# Altium integrated library robot2.IntLib: 33 symbols
Pins are listed as number, name and electrical type; pins without a type are passive.

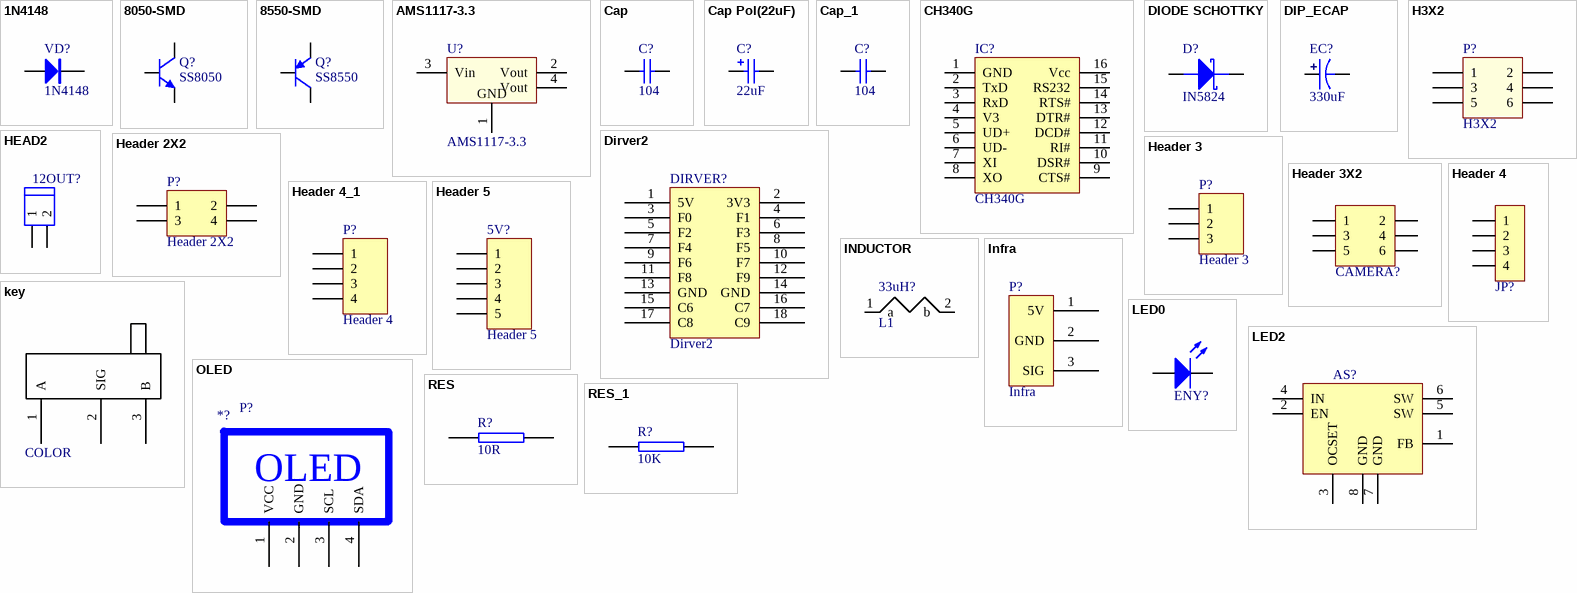
[diagram p0: symbols 1N4148 to RES_1]

## 1N4148
designator VD?
高速开关二极管; 版权归属: 源创客; BOM名称: 高速开关二极管; 学习资源: www.ooocke.com
footprint DO-35 (1.8*6.8mm(直径，脚距）)
footprint MINI_MELF (LL34)
footprint SOD-323 (1.8x1.3X0.9mm（长宽高，不包括引脚）)
footprint DO-35V (1.8*2.5mm(直径，脚距）)
pins: 1 A, 2 K

## 8050-SMD
designator Q?, comment SS8050
高频放大-NPN型; 版权归属: 源创客; 属性: 40V 1.5A 1W 100MHZ; BOM名称: 高频放大-NPN型; 学习资源: www.ooocke.com
footprint SOT23-3N (3x1.3x1mm(长宽高))
footprint SOT23-3L (3x1.3x1mm(长宽高))
footprint SOT23-3M
pins: 1 B, 2 E, 3 C

## 8550-SMD
designator Q?, comment SS8550
高频放大-PNP型; 版权归属: 源创客; 属性: 40V 1.5A 1W 100MHZ; BOM名称: 高频放大-PNP型; 学习资源: www.ooocke.com
footprint SOT23-3N (3x1.3x1mm(长宽高))
footprint SOT23-3L (3x1.3x1mm(长宽高))
footprint SOT23-3M
pins: 1 B, 2 E, 3 C

## AMS1117-3.3
designator U?
footprint SOT-223(AMS1117-3.3)
pins: 1 GND, 2 Vout, 3 Vin, 4 Vout

## Cap
designator C?  (value not drawn)
footprint CAP[0805]
pins: 1, 2
text: 104

## Cap Pol(22uF)
designator C?  (value not drawn)
footprint CAP[1210]
pins: 1, 2
text: 22uF

## Cap_1
designator C?, comment Cap  (value not drawn)
footprint CAP[0805]
pins: 1, 2
text: 104

## CH340G
designator IC?
串口转USB; 版权归属: 源创客; BOM名称: 串口转USB; 学习资源: www.ooocke.com
footprint SOP16_L (10.3*6.2*1.8mm（长宽高）)
footprint SOP16_N (10.3*6.2*1.8mm（长宽高）)
footprint SOP16_M
footprint DIP16-300 (19.3*7.6*3.8(长宽高）)
pins: 1 GND, 2 TxD, 3 RxD, 4 V3, 5 UD+, 6 UD-, 7 XI, 8 XO, 9 CTS#, 10 DSR#, 11 RI#, 12 DCD#, 13 DTR#, 14 RTS#, 15 RS232, 16 Vcc

## DIODE SCHOTTKY
designator D?, comment IN5824
肖特基二极管
footprint DO-15
footprint DO-15L
footprint DO-15LV
footprint DO-15V
footprint DO-27
footprint DO-27V
footprint DO-35
footprint DO-35V
footprint DO-41
footprint DO-41G
footprint DO-41GV
footprint DO-41V
footprint DO-201AD
footprint DO-201ADV
footprint LL34 (玻封二极管)
footprint SMA/DO-214AC (塑封二极管)
footprint SMB/DO-214AA (塑封二极管)
footprint SMC/DO-214AB (塑封二极管)
footprint SOD-123 (塑封二极管)
footprint SOD-323 (塑封二极管)
footprint SOD-523 (塑封二极管)
pins: A, K

## DIP_ECAP
designator EC?, comment 330uF
直插电解电容
footprint DIP-EC1.5X4X8
footprint DIP-EC1.5X4X8-A
footprint DIP-EC2.0X5X11
footprint DIP-EC2.0X5X11-A
footprint DIP-EC5.0X10X12.5
footprint DIP-EC2.5X5X11-A
footprint DIP-EC2.5X6.3X11.2-A
footprint DIP-EC2.5X6.3X11.2
footprint DIP-EC3.5X8X11.5
footprint DIP-EC3.5X8X11.5-A
footprint DIP-EC5.0X10X12.5
footprint DIP-EC5.0X10X12.5-A
footprint DIP-EC5.0X10X16
footprint DIP-EC5.0X10X16-A
footprint DIP-EC5.0X10X20
footprint DIP-EC5.0X10X20-A
footprint DIP-EC5.0X12.5X20
footprint DIP-EC5.0X12.5X20-A
footprint DIP-EC5.0X12.5X25
footprint DIP-EC5.0X12.5X25-A
footprint DIP-EC5X11
footprint DIP-EC6.3X11
footprint DIP-EC7.5X16X25
footprint DIP-EC7.5X16X25-A
footprint DIP-EC7.5X16X31.5
footprint DIP-EC7.5X16X31.5-A
footprint DIP-EC7.5X18X35.5
footprint DIP-EC7.5X18X35.5-A
footprint DIP-EC8X12
footprint DIP-EC10X17
footprint DIP-EC10X22X31.5
footprint DIP-EC5.0X10X12.5
pins: 1, 2

## Dirver2
designator DIRVER?
footprint DIRVER2
pins: 1 5V, 2 3V3, 3 F0, 4 F1, 5 F2, 6 F3, 7 F4, 8 F5, 9 F6, 10 F7, 11 F8, 12 F9, 13 GND, 14 GND, 15 C6, 16 C7, 17 C8, 18 C9

## H3X2
designator P?
footprint H2.54-2X3
pins: 1, 2, 3, 4, 5, 6

## HEAD2
designator 12OUT?  (value not drawn)
footprint HEAD2H (HEAD5.08)
footprint HEAD2L (HEAD5.08)
footprint HEAD2L-0.8
footprint HEAD2W (2EDG-2,pin:5.08mm)
pins: 1, 2

## Header 2X2
designator P?
Header, 2-Pin, Dual row; LatestRevisionDate: 17-Jul-2002; LatestRevisionNote: Re-released for DXP Platform.; Publisher: Altium Limited
footprint HDR2X2 (Connector; Header; 2x2 Position)
signal-integrity model Connector
pins: 1, 2, 3, 4

## Header 3
designator P?
Header, 3-Pin; LatestRevisionDate: 17-Jul-2002; LatestRevisionNote: Re-released for DXP Platform.; Publisher: Altium Limited
footprint HDR1X3 (Connector; Header; 3 Position)
signal-integrity model Connector
pins: 1, 2, 3

## Header 3X2
designator CAMERA?, comment Header3X2  (value not drawn)
3*2P接插件; 版权归属: 源创客; BOM名称: 3*2P接插件; 学习资源: www.ooocke.com
footprint HDR-3X2 (双排弯脚排针，3x2脚)
footprint IDC2.54-6P (6P简易牛角座)
footprint HDR-3X2_H (双排弯脚排针，3x2脚)
footprint PHB2.0-2x3 (长：8mm，宽：7.3mm，高：7.8mm)
footprint PHD2.0-2x3P (6脚，长：8mm，宽：5mm，高：6.5mm)
footprint HDR2.54 2x3-M-SMD (脚距：2.54mm，贴片双排母)
pins: 1, 2, 3, 4, 5, 6

## Header 4
designator JP?, comment HDR-1X4  (value not drawn)
4P接插件; 版权归属: 源创客; BOM名称: 4P接插件; 学习资源: www.ooocke.com
footprint HDR-1X4 (排针，4脚)
footprint HDR-1X4_M
footprint XH2.54-4P (接插件，4P)
footprint KF2510-4P (接插件/2A)
footprint VH3.96-4P_H (接插件，25V/5A)
footprint PH2.0 D-L-4P (接插件/1A)
footprint HDR-1X4_H (弯脚排针，4脚)
footprint HDR-1X4_Y (圆孔排母，4脚)
footprint XH2.54-4P_H (接插件，4P)
footprint PH2.0 D-W-4P (接插件/1A)
footprint KF301-4P (可拼接端子/6A)
footprint KF2EDGK-4P (直列插拔式端子)
footprint KF2EDGK-4P_H (弯角插拔式端子)
footprint KF7620-4P (30.5*12*12mm(长宽高))
footprint KF350-4P (可拼接端子/10A)
footprint KF128-3.81-4P (螺钉式接线端子，脚距3.81mm)
footprint KF128-5.08-4P (螺钉式接线端子，脚距5.08mm)
footprint VH3.96-4P (接插件，25V/5A)
footprint PH2.0 S-W-4P (长：12mm，宽：7.6mm，高：5.5mm)
pins: 1, 2, 3, 4

## Header 4_1
designator P?, comment Header 4
Header, 4-Pin; LatestRevisionDate: 17-Jul-2002; LatestRevisionNote: Re-released for DXP Platform.; Publisher: Altium Limited
footprint HDR1X4 (Connector; Header; 4 Position)
signal-integrity model Connector
pins: 1, 2, 3, 4

## Header 5
designator 5V?
Header, 5-Pin; LatestRevisionDate: 17-Jul-2002; LatestRevisionNote: Re-released for DXP Platform.; Publisher: Altium Limited
footprint HDR1X5 (Connector; Header; 5 Position)
signal-integrity model Connector
pins: 1, 2, 3, 4, 5

## INDUCTOR
designator 33uH?, comment L1
footprint INDUCTOR
pins: 1 a, 2 b

## Infra
designator P?
footprint Infra
pins: 1 5V, 2 GND, 3 SIG

## key
designator COLOR?, comment COLOR
footprint KEY
pins: 1 A, 2 SIG, 3 B

## LED0
designator ENY?  (value not drawn)
footprint LED[0805]
pins: 1 A, 2 K

## LED2
designator AS?, comment U1  (value not drawn)
footprint AS1015
pins: 1 FB, 2 EN, 3 OCSET, 4 IN, 5 SW, 6 SW, 7 GND, 8 GND

## OLED
designator *?, comment P?
footprint OLED
pins: 1 VCC, 2 GND, 3 SCL, 4 SDA

## RES
designator R?, comment 10R
footprint R0805
pins: 1, 2

## RES_1
designator R?, comment 10K
footprint R0805
pins: 1, 2

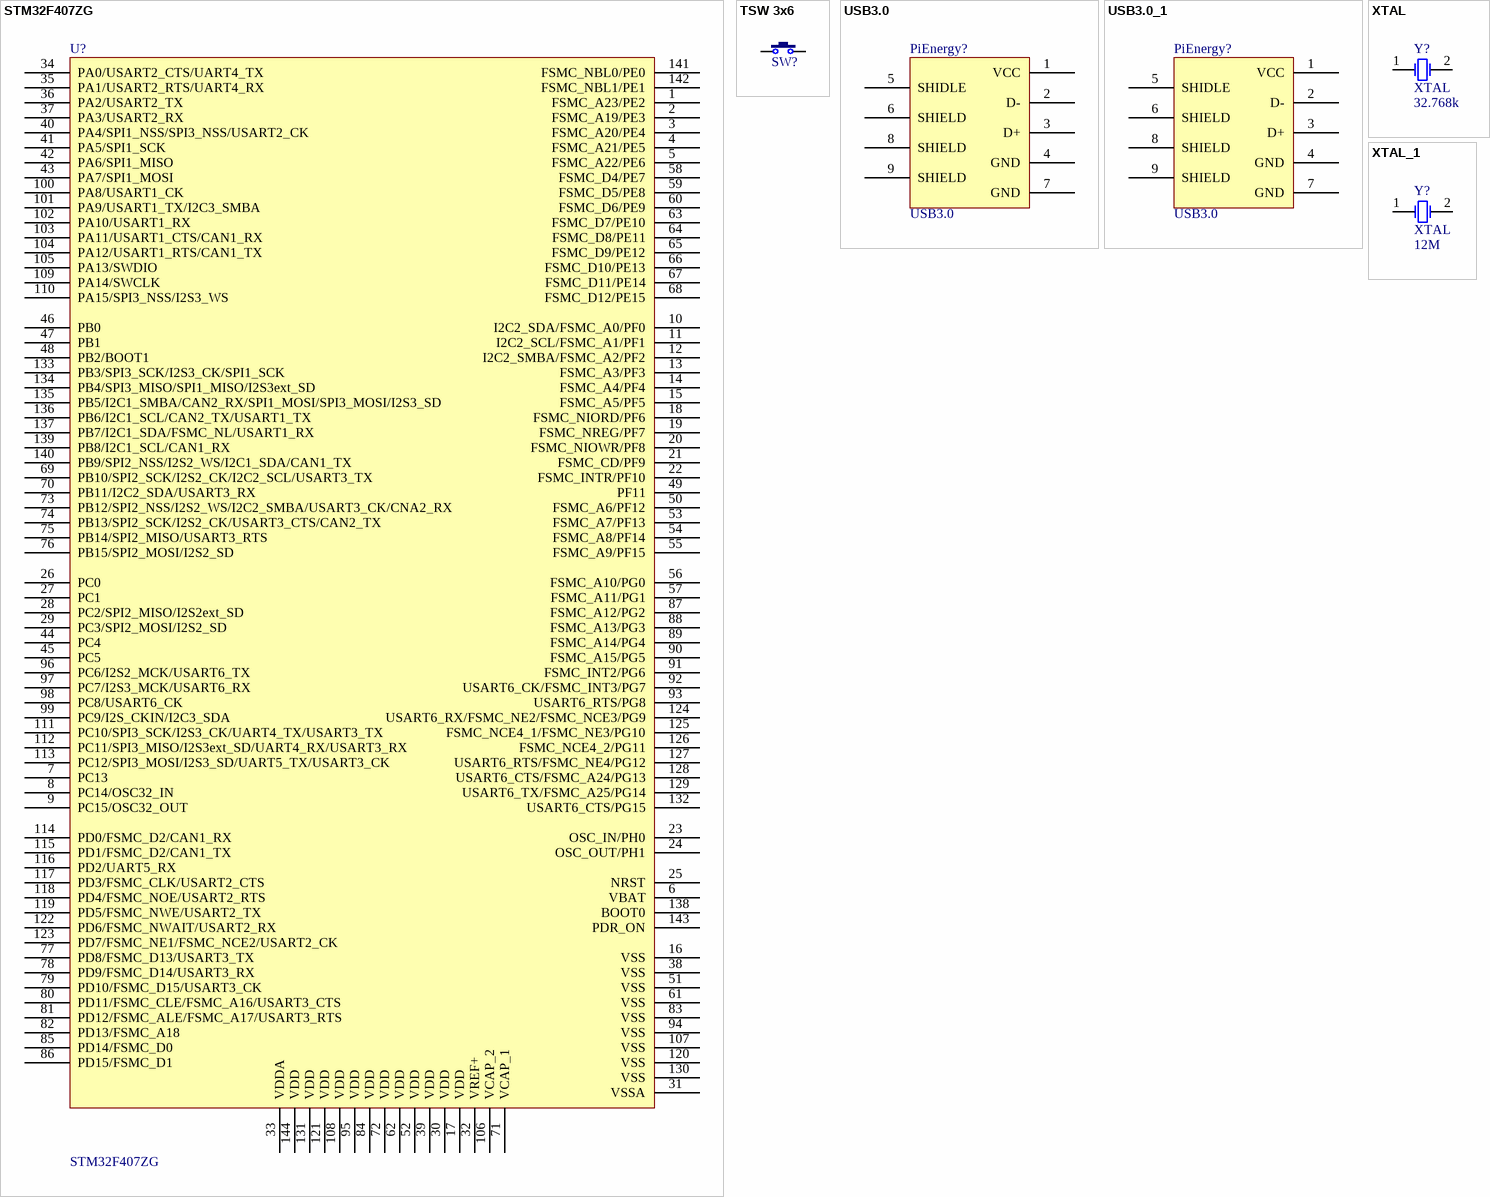
[diagram p1: symbols STM32F407ZG to XTAL_1]

## STM32F407ZG
designator U?
Flaah:1024/RAM:192/IO:114; BOM名称: 32位ST单片机; 版权归属: 源创客; 学习资源: www.ooocke.com
footprint LQFP144 20X20_L (144脚，体宽20x20mm，脚距0.5mm)
footprint LQFP144 20X20_M
footprint LQFP144 20X20_N (144脚，体宽20x20mm，脚距0.5mm)
pins: 1 FSMC_A23/PE2, 2 FSMC_A19/PE3, 3 FSMC_A20/PE4, 4 FSMC_A21/PE5, 5 FSMC_A22/PE6, 6 VBAT, 7 PC13, 8 PC14/OSC32_IN, 9 PC15/OSC32_OUT, 10 I2C2_SDA/FSMC_A0/PF0, 11 I2C2_SCL/FSMC_A1/PF1, 12 I2C2_SMBA/FSMC_A2/PF2, 13 FSMC_A3/PF3, 14 FSMC_A4/PF4, 15 FSMC_A5/PF5, 16 VSS, 17 VDD, 18 FSMC_NIORD/PF6, 19 FSMC_NREG/PF7, 20 FSMC_NIOWR/PF8, 21 FSMC_CD/PF9, 22 FSMC_INTR/PF10, 23 OSC_IN/PH0, 24 OSC_OUT/PH1, 25 NRST, 26 PC0, 27 PC1, 28 PC2/SPI2_MISO/I2S2ext_SD, 29 PC3/SPI2_MOSI/I2S2_SD, 30 VDD, 31 VSSA, 32 VREF+, 33 VDDA, 34 PA0/USART2_CTS/UART4_TX, 35 PA1/USART2_RTS/UART4_RX, 36 PA2/USART2_TX, 37 PA3/USART2_RX, 38 VSS, 39 VDD, 40 PA4/SPI1_NSS/SPI3_NSS/USART2_CK, 41 PA5/SPI1_SCK, 42 PA6/SPI1_MISO, 43 PA7/SPI1_MOSI, 44 PC4, 45 PC5, 46 PB0, 47 PB1, 48 PB2/BOOT1, 49 PF11, 50 FSMC_A6/PF12, 51 VSS, 52 VDD, 53 FSMC_A7/PF13, 54 FSMC_A8/PF14, 55 FSMC_A9/PF15, 56 FSMC_A10/PG0, 57 FSMC_A11/PG1, 58 FSMC_D4/PE7, 59 FSMC_D5/PE8, 60 FSMC_D6/PE9, 61 VSS, 62 VDD, 63 FSMC_D7/PE10, 64 FSMC_D8/PE11, 65 FSMC_D9/PE12, 66 FSMC_D10/PE13, 67 FSMC_D11/PE14, 68 FSMC_D12/PE15, 69 PB10/SPI2_SCK/I2S2_CK/I2C2_SCL/USART3_TX, 70 PB11/I2C2_SDA/USART3_RX, 71 VCAP_1, 72 VDD, 73 PB12/SPI2_NSS/I2S2_WS/I2C2_SMBA/USART3_CK/CNA2_RX, 74 PB13/SPI2_SCK/I2S2_CK/USART3_CTS/CAN2_TX, 75 PB14/SPI2_MISO/USART3_RTS, 76 PB15/SPI2_MOSI/I2S2_SD, 77 PD8/FSMC_D13/USART3_TX, 78 PD9/FSMC_D14/USART3_RX, 79 PD10/FSMC_D15/USART3_CK, 80 PD11/FSMC_CLE/FSMC_A16/USART3_CTS, 81 PD12/FSMC_ALE/FSMC_A17/USART3_RTS, 82 PD13/FSMC_A18, 83 VSS, 84 VDD, 85 PD14/FSMC_D0, 86 PD15/FSMC_D1, 87 FSMC_A12/PG2, 88 FSMC_A13/PG3, 89 FSMC_A14/PG4, 90 FSMC_A15/PG5, 91 FSMC_INT2/PG6, 92 USART6_CK/FSMC_INT3/PG7, 93 USART6_RTS/PG8, 94 VSS, 95 VDD, 96 PC6/I2S2_MCK/USART6_TX, 97 PC7/I2S3_MCK/USART6_RX, 98 PC8/USART6_CK, 99 PC9/I2S_CKIN/I2C3_SDA, 100 PA8/USART1_CK, 101 PA9/USART1_TX/I2C3_SMBA, 102 PA10/USART1_RX, 103 PA11/USART1_CTS/CAN1_RX, 104 PA12/USART1_RTS/CAN1_TX, 105 PA13/SWDIO, 106 VCAP_2, 107 VSS, 108 VDD, 109 PA14/SWCLK, 110 PA15/SPI3_NSS/I2S3_WS, 111 PC10/SPI3_SCK/I2S3_CK/UART4_TX/USART3_TX, 112 PC11/SPI3_MISO/I2S3ext_SD/UART4_RX/USART3_RX, 113 PC12/SPI3_MOSI/I2S3_SD/UART5_TX/USART3_CK, 114 PD0/FSMC_D2/CAN1_RX, 115 PD1/FSMC_D2/CAN1_TX, 116 PD2/UART5_RX, 117 PD3/FSMC_CLK/USART2_CTS, 118 PD4/FSMC_NOE/USART2_RTS, 119 PD5/FSMC_NWE/USART2_TX, 120 VSS, 121 VDD, 122 PD6/FSMC_NWAIT/USART2_RX, 123 PD7/FSMC_NE1/FSMC_NCE2/USART2_CK, 124 USART6_RX/FSMC_NE2/FSMC_NCE3/PG9, 125 FSMC_NCE4_1/FSMC_NE3/PG10, 126 FSMC_NCE4_2/PG11, 127 USART6_RTS/FSMC_NE4/PG12, 128 USART6_CTS/FSMC_A24/PG13, 129 USART6_TX/FSMC_A25/PG14, 130 VSS, 131 VDD, 132 USART6_CTS/PG15, 133 PB3/SPI3_SCK/I2S3_CK/SPI1_SCK, 134 PB4/SPI3_MISO/SPI1_MISO/I2S3ext_SD, 135 PB5/I2C1_SMBA/CAN2_RX/SPI1_MOSI/SPI3_MOSI/I2S3_SD, 136 PB6/I2C1_SCL/CAN2_TX/USART1_TX, 137 PB7/I2C1_SDA/FSMC_NL/USART1_RX, 138 BOOT0, 139 PB8/I2C1_SCL/CAN1_RX, 140 PB9/SPI2_NSS/I2S2_WS/I2C1_SDA/CAN1_TX, 141 FSMC_NBL0/PE0, 142 FSMC_NBL1/PE1, 143 PDR_ON, 144 VDD

## TSW 3x6
designator SW?, comment 3x6x5  (value not drawn)
3x6轻触开关; 版权归属: 源创客; BOM名称: 3x6轻触开关; 学习资源: www.ooocke.com
footprint TSW SMD-3*6*2.5
footprint TSW DIP-3*6*5_V (侧按轻触开关 3*6*5mm)
footprint TSW DIP-3*6*4.3 (3*6*4.3mm)
footprint TSW DIP-3*6*4.3_V (侧按轻触开关 3*6*4.3mm)
footprint TSW DIP-3*6*5 (3*6*5mm)
footprint TSW SMD-3*6*4.3 (3*6*4.3mm)
footprint TSW SMD-3*6*5 (3*6*5mm)
pins: 1, 2

## USB3.0
designator PiEnergy?
footprint USB3.0
pins: 1 VCC, 2 D-, 3 D+, 4 GND, 5 SHIDLE, 6 SHIELD, 7 GND, 8 SHIELD, 9 SHIELD

## USB3.0_1
designator PiEnergy?, comment USB3.0
footprint USB3.0
pins: 1 VCC, 2 D-, 3 D+, 4 GND, 5 SHIDLE, 6 SHIELD, 7 GND, 8 SHIELD, 9 SHIELD

## XTAL
designator Y?
footprint XTAL-DT38-SMD
pins: 1 OSC1, 2 OSC2
text: 32.768k

## XTAL_1
designator Y?, comment XTAL
footprint XTAL
pins: 1 OSC1, 2 OSC2
text: 12M